# EAGLE library part 62000911722 (library Wurth_Elektronik_Electromechanic_Wire_to_Board_Connectors_rev15c)
WR-WTB 2.00mm Male Horizontal Shrouded Header, 9 Pins=>Code : Con_WTB_2.00_PCB_THT_62000911722 <http://katalog.we-online.de/media/thumbs2/eican/thb_Con_WTB_2.00_PCB_THT_6200xx11722_pf2.jpg> Details see: http://katalog.we-online.de/en/em/620_0xx_117_22 Created 2014-06-05, Karrer Zheng 2014 (C) Würth Elektronik
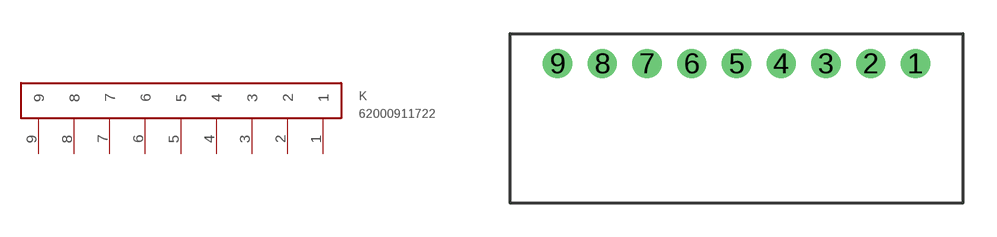
[diagram p33: symbol with the pads of 62000911722; footprint 62000911722]

Designator prefix K

## 62000911722  [62000911722]
1  1
2  2
3  3
4  4
5  5
6  6
7  7
8  8
9  9

## Footprint 62000911722 (pad centres in mm)
WR-WTB 2.00mm Male Horizontal Shrouded Header, 9 Pins
drill 0.8: 1 1,0; 2 -1,0; 3 -3,0; 4 -5,0; 5 -7,0; 6 -9,0; 7 -11,0; 8 -13,0; 9 -15,0